# Altium footprint library misc.PcbLib: 8 footprints
Each footprint in its own frame and in the unit in brackets; x right, y up, seen from the top. Pads: shape width x height; smd on the part's side, far side on the other; paste and mask are expansions set on the pad; w line width, h text height; cw(c..) or ccw(c..) is an arc to the next point about the centre after c.
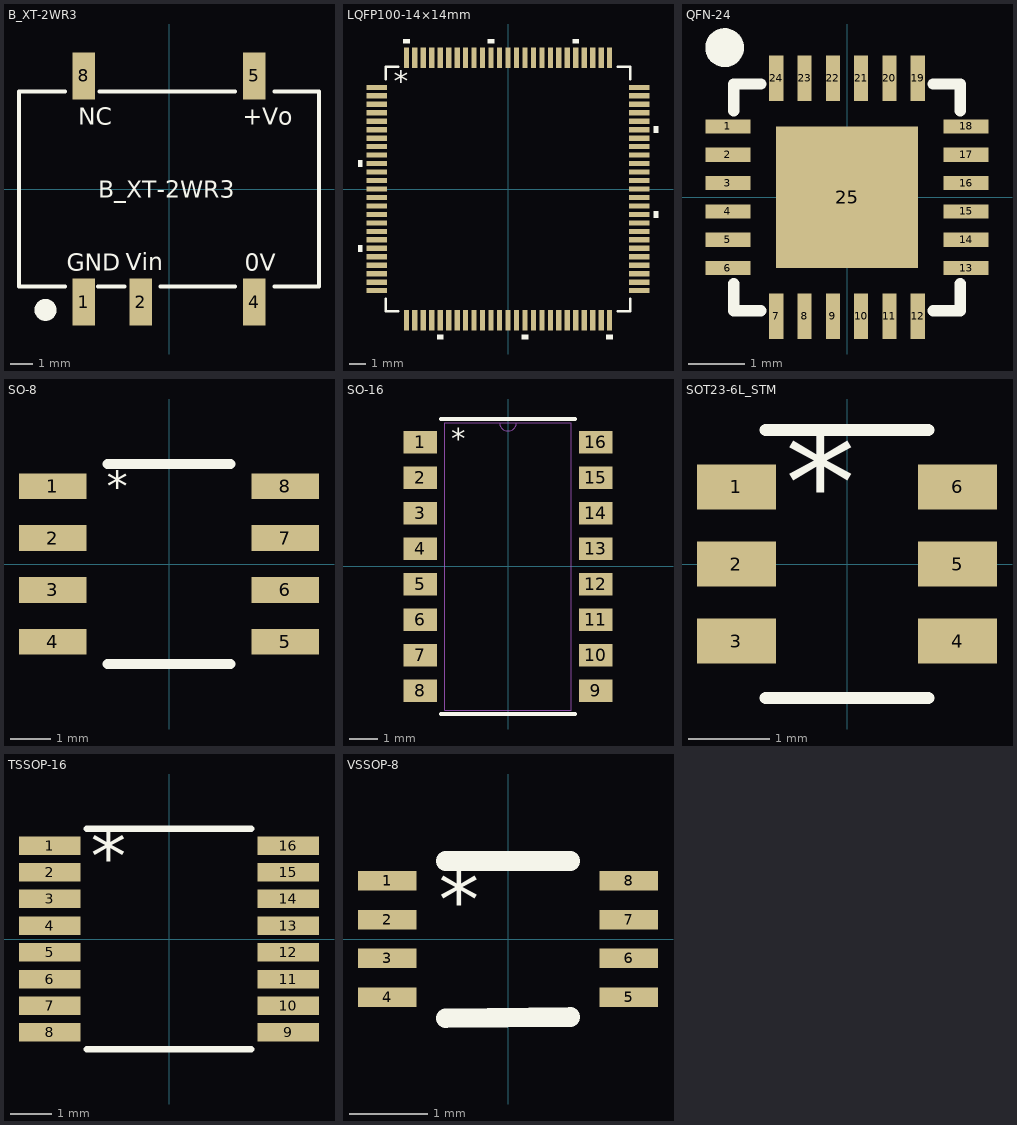
[diagram p0: the footprints below, top view; thin cyan lines are the x and y axes]

## B_XT-2WR3 [mm]
pads (5):
  rect 1x2.1 smd: 1(-3.81,-5.05) 2(-1.27,-5.05) 4(3.81,-5.05) 5(3.81,5.05) 8(-3.81,5.05)
Top Overlay:
  lines w0.178: -4.642,-4.35 -6.7,-4.35 -6.7,4.35 -4.642,4.35 ; -3.161,-4.35 -1.981,-4.35 ; -3.099,4.35 -0.38,4.35 2.949,4.35 ; -0.38,-4.35 2.949,-4.35 ; 4.705,-4.35 6.7,-4.35 6.7,4.35 4.705,4.35
  lines w0.508: -5.303,-5.295 ccw(c-5.515,-5.401) -5.279,-5.378
  text "B_XT-2WR3" at -3.163,-0.382 h0.76
  text "+Vo" at 3.302,2.878 h0.76
  text "Vin" at -1.925,-3.627 h0.76
  text "NC" at -4.064,2.878 h0.76
  text "GND" at -4.572,-3.646 h0.76
  text "0V" at 3.378,-3.646 h0.76
3D body "B_XT-2WR3.stp": height 7.2, standoff -0.05, extent -6.599,-5.755 6.601,5.645

## LQFP100-14×14mm [mil]
pads (100):
  rect 47x12 smd paste+0 mask+0: 1(-305.12,236.22) 2(-305.12,216.54) 3(-305.12,196.85) 4(-305.12,177.17) 5(-305.12,157.48) 6(-305.12,137.8) 7(-305.12,118.11) 8(-305.12,98.43) 9(-305.12,78.74) 10(-305.12,59.06) 11(-305.12,39.37) 12(-305.12,19.69) 13(-305.12,0) 14(-305.12,-19.68) 15(-305.12,-39.37) 16(-305.12,-59.06) 17(-305.12,-78.74) 18(-305.12,-98.43) 19(-305.12,-118.11) 20(-305.12,-137.8) 21(-305.12,-157.48) 22(-305.12,-177.17) 23(-305.12,-196.85) 24(-305.12,-216.54) 25(-305.12,-236.22) 51(305.12,-236.22) 52(305.12,-216.54) 53(305.12,-196.85) 54(305.12,-177.17) 55(305.12,-157.48) 56(305.12,-137.8) 57(305.12,-118.11) 58(305.12,-98.43) 59(305.12,-78.74) 60(305.12,-59.06) 61(305.12,-39.37) 62(305.12,-19.68) 63(305.12,0) 64(305.12,19.68) 65(305.12,39.37) 66(305.12,59.06) 67(305.12,78.74) 68(305.12,98.43) 69(305.12,118.11) 70(305.12,137.8) 71(305.12,157.48) 72(305.12,177.17) 73(305.12,196.85) 74(305.12,216.54) 75(305.12,236.22)
  rect 12x47 smd paste+0 mask+0: 26(-236.22,-305.12) 27(-216.54,-305.12) 28(-196.85,-305.12) 29(-177.17,-305.12) 30(-157.48,-305.12) 31(-137.8,-305.12) 32(-118.11,-305.12) 33(-98.43,-305.12) 34(-78.74,-305.12) 35(-59.06,-305.12) 36(-39.37,-305.12) 37(-19.68,-305.12) 38(0,-305.12) 39(19.68,-305.12) 40(39.37,-305.12) 41(59.06,-305.12) 42(78.74,-305.12) 43(98.43,-305.12) 44(118.11,-305.12) 45(137.8,-305.12) 46(157.48,-305.12) 47(177.17,-305.12) 48(196.85,-305.12) 49(216.54,-305.12) 50(236.22,-305.12) 76(236.22,305.12) 77(216.54,305.12) 78(196.85,305.12) 79(177.17,305.12) 80(157.48,305.12) 81(137.8,305.12) 82(118.11,305.12) 83(98.43,305.12) 84(78.74,305.12) 85(59.06,305.12) 86(39.37,305.12) 87(19.68,305.12) 88(0,305.12) 89(-19.68,305.12) 90(-39.37,305.12) 91(-59.06,305.12) 92(-78.74,305.12) 93(-98.43,305.12) 94(-118.11,305.12) 95(-137.8,305.12) 96(-157.48,305.12) 97(-177.17,305.12) 98(-196.85,305.12) 99(-216.54,305.12) 100(-236.22,305.12)
Top Overlay:
  region: -338.62,66.56 -348.62,66.56 -348.62,51.56 -338.62,51.56
  region: -338.62,-130.3 -348.62,-130.3 -348.62,-145.3 -338.62,-145.3
  region: -149.98,-338.62 -164.98,-338.62 -164.98,-348.62 -149.98,-348.62
  region: 46.87,-338.62 31.87,-338.62 31.87,-348.62 46.87,-348.62
  region: 243.72,-338.62 228.72,-338.62 228.72,-348.62 243.72,-348.62
  region: 338.62,-51.56 348.62,-51.56 348.62,-66.56 338.62,-66.56
  region: 338.62,145.3 348.62,145.3 348.62,130.3 338.62,130.3
  region: 164.98,338.62 149.98,338.62 149.98,348.62 164.98,348.62
  region: -31.87,338.62 -46.87,338.62 -46.87,348.62 -31.87,348.62
  region: -228.72,338.62 -243.72,338.62 -243.72,348.62 -228.72,348.62
  lines w6: -284.5,-255.32 -284.5,-284.5 -255.32,-284.5 ; -284.5,255.32 -284.5,284.5 -255.32,284.5 ; 255.32,-284.5 284.5,-284.5 284.5,-255.32 ; 255.32,284.5 284.5,284.5 284.5,255.32
  text "*" at -265,225 h50
3D body "LQFP100-14x14mm.step": height 63.11, standoff 0, extent -314.84,-314.84 314.84,314.84

## QFN-24 [mm]
pads (25):
  rect 0.8x0.25 smd: 1(-2.101,1.25) 2(-2.101,0.75) 3(-2.101,0.25) 4(-2.101,-0.25) 5(-2.101,-0.75) 6(-2.101,-1.25) 13(2.101,-1.25) 14(2.101,-0.75) 15(2.101,-0.25) 16(2.101,0.25) 17(2.101,0.75) 18(2.101,1.25)
  rect 0.25x0.8 smd: 7(-1.25,-2.101) 8(-0.75,-2.101) 9(-0.25,-2.101) 10(0.25,-2.101) 11(0.75,-2.101) 12(1.25,-2.101) 19(1.25,2.101) 20(0.75,2.101) 21(0.25,2.101) 22(-0.25,2.101) 23(-0.75,2.101) 24(-1.25,2.101)
  rect 2.5x2.5 smd: 25(0,0)
Top Overlay:
  circle w0.381: c-2.159,2.642 r0.152
  lines w0.2: -2,-1.525 -2,-2 -1.525,-2 ; -2,1.525 -2,2 -1.525,2 ; 1.525,-2 2,-2 2,-1.525 ; 1.525,2 2,2 2,1.525

## SO-8 [mm]
pads (8):
  rect 1.651x0.635 smd: 1(-2.85,1.905) 2(-2.85,0.635) 3(-2.85,-0.635) 4(-2.85,-1.905) 5(2.85,-1.905) 6(2.85,-0.635) 7(2.85,0.635) 8(2.85,1.905)
Top Overlay:
  lines w0.254: -1.5,-2.45 1.5,-2.45 ; -1.5,2.45 1.5,2.45
  text "*" at -1.524,1.524 h0.76

## SO-16 [mm]
pads (16):
  rect 1.2x0.8 smd paste+0 mask+0: 1(-3.15,4.445) 2(-3.15,3.175) 3(-3.15,1.905) 4(-3.15,0.635) 5(-3.15,-0.635) 6(-3.15,-1.905) 7(-3.15,-3.175) 8(-3.15,-4.445) 9(3.15,-4.445) 10(3.15,-3.175) 11(3.15,-1.905) 12(3.15,-0.635) 13(3.15,0.635) 14(3.15,1.905) 15(3.15,3.175) 16(3.15,4.445)
Top Overlay:
  lines w0.152: -2.4,-5.283 2.4,-5.283 ; -2.4,5.283 2.4,5.283
  text "*" at -2.032,4.191 h0.76
Mechanical 13:
  lines w0: -0.305,5.156 ccw(c0,5.156) 0.305,5.156
  lines w0.025: -2.273,-5.156 2.273,-5.156 2.273,5.156 -2.273,5.156 -2.273,-5.156
3D body: height 0.25, standoff 0, extent 0,0 0.254,0.254

## SOT23-6L_STM [mm]
pads (6):
  rect 0.972x0.558 smd paste+0 mask+0: 1(-1.362,0.95) 2(-1.362,0) 3(-1.362,-0.95) 4(1.362,-0.95) 5(1.362,0) 6(1.362,0.95)
Top Overlay:
  lines w0.152: -1.003,-1.651 1.003,-1.651 ; -1.003,1.651 1.003,1.651
  text "*" at -0.762,0.381 h1.27
3D body "SOT23-6L_STM.step": height 1.45, standoff 0, extent -1.499,-1.524 1.499,1.524

## TSSOP-16 [mm]
pads (16):
  rect 1.5x0.45 smd paste+0: 1(-2.9,2.275) 2(-2.9,1.625) 3(-2.9,0.975) 4(-2.9,0.325) 5(-2.9,-0.325) 6(-2.9,-0.975) 7(-2.9,-1.625) 8(-2.9,-2.275) 9(2.9,-2.275) 10(2.9,-1.625) 11(2.9,-0.975) 12(2.9,-0.325) 13(2.9,0.325) 14(2.9,0.975) 15(2.9,1.625) 16(2.9,2.275)
Top Overlay:
  lines w0.152: -2.005,-2.68 2.005,-2.68 ; -2.005,2.68 2.005,2.68
  text "*" at -1.902,1.397 h1.27
3D body "21-0066J_16_MXM.step": height 1.09, standoff 0, extent -3.15,-2.426 3.404,2.68

## VSSOP-8 [mm]
pads (8):
  rect 0.75x0.25 smd: 1(-1.55,0.75) 2(-1.55,0.25) 3(-1.55,-0.25) 4(-1.55,-0.75) 5(1.55,-0.75) 6(1.55,-0.25) 7(1.55,0.25) 8(1.55,0.75)
Top Overlay:
  lines w0.254: -0.8,-1.016 0.8,-1 ; -0.8,1 0.8,1
  text "*" at -0.889,0.127 h0.76